# Altium schematic symbol library USBRegulator Lib.SchLib: 2 symbols
Pins are listed as number, name and electrical type; pins without a type are passive.

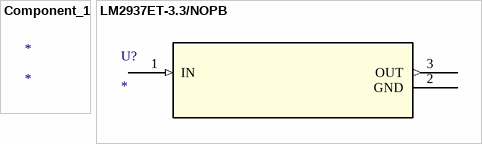
[diagram p0: symbols Component_1 to LM2937ET-3.3/NOPB]

## Component_1
designator *

## LM2937ET-3.3/NOPB
designator U?
No Description Available; PartNumber: LM2937ET-10; Comp: TypeLDO; Vendor: NationalSemiconductor; base_pn: LM2937; Symbol: NameLM2937ET-10; Library: ReferenceLM2937ET; Type: DEV; Version: 1; Pin: Count3; Copyright: Copyright (C) 2018 Accelerated Designs. All rights reserved; RefDes: RefDes
footprint T03B
pins: 1 IN (in), 2 GND (power), 3 OUT (out)